# Altium schematic symbol library CONECTER.SchLib: 120 symbols
Pins are listed as number, name and electrical type; pins without a type are passive.

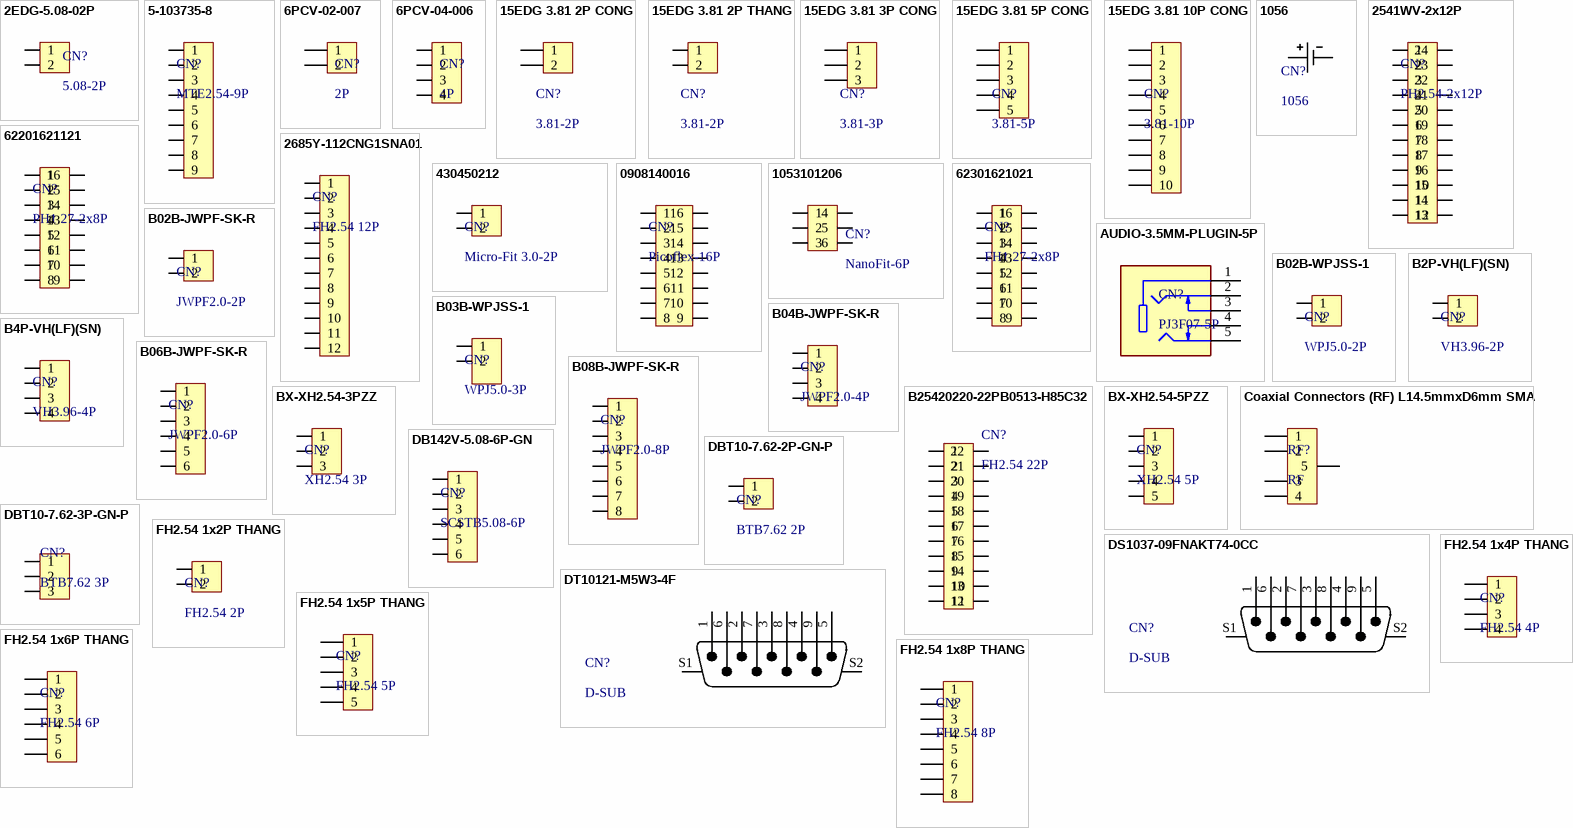
[diagram p0: symbols 2EDG-5.08-02P to FH2.54 1x8P THANG]

## 2EDG-5.08-02P
designator CN?, comment 5.08-2P
320V 20A 2 Bend -40℃~+105℃ 1 5.08mm 1x2P Green Board Edge/Receptacle-Close Push-Pull,P=5.08mm Pluggable System Terminal Block ROHS; Manufacturer: DORABO; Mfr.Part #: DB2ERC-5.08-2P-GN; Name: 2EDG-5.08-02P; So_Chan_Cam: 2; So_Chan_Dan: 0; Package: Push-Pull,P=5.08mm
footprint Push-Pull,P=5.08mm,2P(2EDG-5.08-02P)
pins: 1, 2

## 5-103735-8
designator CN?, comment MTE2.54-9P
Connector Header Through Hole 9 position 0.100" (2.54mm); Manufacturer: TE Connectivity AMP Connectors; Mfr.Part #: 5-103735-8; DigiKey Part Number: A33940-ND; Package: Plugin,P=2.54mm
footprint Plugin,P=2.54mm,7P
footprint Plugin,P=2.54mm,7P-1
pins: 1, 2, 3, 4, 5, 6, 7, 8, 9

## 6PCV-02-007
designator CN?, comment 2P
2 Circuit 0.375" (9.53mm) Barrier Block Connector Screws; Manufacturer: TE Connectivity AMP Connectors; Mfr.Part #: 6PCV-02-007; So_Chan_Cam: 2; So_Chan_Dan: 0; Web: Digikey; Name: 6PCV-02-007; Package: Plugin,P=375mil; ComponentLink1Description: Link; ComponentLink1URL: https://www.te.com/usa-en/product-4-1437652-0.datasheet.pdf
footprint Plugin,P=375mil,L=811mil
pins: 1, 2

## 6PCV-04-006
designator CN?, comment 4P
4 Circuit 0.375" (9.53mm) Barrier Block Connector Screws; Manufacturer: TE Connectivity AMP Connectors; Mfr.Part #: 6PCV-04-006; So_Chan_Cam: 2; So_Chan_Dan: 0; Web: Digikey; Name: 6PCV-04-006; Package: Plugin,P=375mil; ComponentLink1Description: Link; ComponentLink1URL: https://www.te.com/usa-en/product-4-1437652-0.datasheet.pdf
footprint Plugin,P=375mil,L=811mil,4P
pins: 1, 2, 3, 4

## 15EDG 3.81 2P CONG
designator CN?, comment 3.81-2P
2 Straight Needle 1 3.81mm Green Plugin,P=3.81mm Pluggable System Terminal Block ROHS; Manufacturer: Phoenix Contact; Mfr.Part #: 5444262; Name: 15EDG 3.81 2P CONG; So_Chan_Dan: 0; So_Chan_Cam: 2; Package: Plugin,P=3.81,90°, Right Angle
footprint Plugin,P=3.81,90°, Right Angle,2P
pins: 1, 2

## 15EDG 3.81 2P THANG
designator CN?, comment 3.81-2P
3.81mm Plugin,P=3.81mm Pluggable System Terminal Block ROHS; Manufacturer: HCTL; Mfr.Part #: HC15EDGVC-3.81-2P-V; Name: 15EDG 3.81 2P CONG; So_Chan_Dan: 0; So_Chan_Cam: 2; Package: Plugin,P=3.81mm
footprint Plugin,P=3.81,2P
pins: 1, 2

## 15EDG 3.81 3P CONG
designator CN?, comment 3.81-3P
160V 8A 3 Bend 1 3.81mm 1x3P Green Receptacle-Close Push-Pull,P=3.81mm Pluggable System Terminal Block ROHS; Manufacturer: Phoenix Contact; Mfr.Part #: 1803280; Name: 15EDG 3.81 3P CONG; So_Chan_Dan: 0; So_Chan_Cam: 3; Package: Plugin,P=3.81,90°, Right Angle
footprint Plugin,P=3.81,90°, Right Angle,3P
pins: 1, 2, 3

## 15EDG 3.81 5P CONG
designator CN?, comment 3.81-5P
160V 8A 5 Bend 1 3.81mm 1x5P Green Receptacle-Close Push-Pull,P=3.81mm Pluggable System Terminal Block ROHS; Manufacturer: Phoenix Contact; Mfr.Part #: 1803303; Name: 15EDG 3.81 3P CONG; So_Chan_Dan: 0; So_Chan_Cam: 5; Package: Plugin,P=3.81,90°, Right Angle
footprint Plugin,P=3.81,90°, Right Angle,5P
pins: 1, 2, 3, 4, 5

## 15EDG 3.81 10P CONG
designator CN?, comment 3.81-10P
P=3.81mm Pluggable System Terminal Block ROHS; Manufacturer: Phoenix Contact; Mfr.Part #: 1803358; Name: 15EDG 3.81 10P CONG; So_Chan_Dan: 0; So_Chan_Cam: 10; Package: Plugin,P=3.81,90°, Right Angle
footprint Plugin,P=3.81,90°, Right Angle,10p
pins: 1, 2, 3, 4, 5, 6, 7, 8, 9, 10

## 1056
designator CN?
SMD BatteryConnector; Manufacturer: Keystone; So_Chan_Cam: 0; So_Chan_Dan: 2; Mfr.Part #: 1056; Name: 1056; Package: SMD
footprint SMD,BAT_CASE_1056
pins: 1, 2

## 2541WV-2x12P
designator CN?, comment PH2.54-2x12P
Gold Straight Policy 2.54mm 6mm 24P -55℃~+105℃ 3mm 2.54mm Double Row 2x12P Plugin,P=2.54mm Pin Headers ROHS; Manufacturer: HanElectricity; Mfr.Part #: 2541WV-2x12P; Package: Plugin,P=2.54mm; LCSC Part #: C5383110
footprint Plugin,P=2.54mm,2X12P,Pin Headers
pins: 1, 2, 3, 4, 5, 6, 7, 8, 9, 10, 11, 12, 13, 14, 15, 16, 17, 18, 19, 20, 21, 22, 23, 24

## 2685Y-112CNG1SNA01
designator CN?, comment FH2.54 12P
2.54mm 2.54mm 3A Single Row Gold 12P -40℃~+105℃ Brass Straight 1x12P 8.5mm Top Square Hole Plugin,P=2.54mm Female Headers ROHS; Manufacturer: HOAUC; Mfr.Part #: 2685Y-112CNG1SNA01; Package: Plugin,P=2.54mm; LCSC Part #: C5110232
footprint Plugin,P=2.54mm,12p,Female Headers
pins: 1, 2, 3, 4, 5, 6, 7, 8, 9, 10, 11, 12

## 430450212
designator CN?, comment Micro-Fit 3.0-2P
2x1P 2P Micro-Fit(MX 3.0) Tin 3mm 1 -40℃~+105℃ 8.5A 2 3mm Brass Through Hole Plugin,P=3mm Wire To Board Connector ROHS; Manufacturer: MOLEX; Mfr.Part #: 430450212; LCSC Part #: C293362; Package: Plugin,P=3mm
footprint Push-Pull,P=2.54mm,2P
pins: 1, 2

## 0908140016
designator CN?, comment Picoflex-16P
Connector Header Surface Mount 16 position 0.050" (1.27mm); Manufacturer: Molex; Mfr.Part #: 0908140016; DigiKey Part Number: WM19280-ND; Package: SMD,1.27mm
footprint Plugin,P=2.54mm,2x15P,Female Headers
pins: 1, 2, 3, 4, 5, 6, 7, 8, 9, 10, 11, 12, 13, 14, 15, 16

## 1053101206
designator CN?, comment NanoFit-6P
Connector Header Through Hole 6 position 0.098" (2.50mm); Manufacturer: Molex; Mfr.Part #: 1053101206; DigiKey Part Number: WM14970-ND; Package: Plugin,P=2.5mm
footprint Plugin,P=2.5mm,2X3P,Nano-Fit 6P Male
pins: 1, 2, 3, 4, 5, 6

## 62201621121
designator CN?, comment PH1.27-2x8P
Connector Header Through Hole 16 position 0.050" (1.27mm); Manufacturer: Würth Elektronik; Mfr.Part #: 62201621121; DigiKey Part Number: 732-5376-ND; Package: Plugin,P=1.27mm
footprint Plugin,P=1.27mm,2X8P,Pin Headers
pins: 1, 2, 3, 4, 5, 6, 7, 8, 9, 10, 11, 12, 13, 14, 15, 16

## 62301621021
designator CN?, comment FH1.27-2x8P
16 Position Receptacle Connector 0.050" (1.27mm) Surface Mount Gold; Manufacturer: Würth Elektronik; Mfr.Part #: 62301621021; DigiKey Part Number: 732-62301621021-ND; Package: SMD,P=1.27mm
footprint SMD,P=1.27mm,2x8P
pins: 1, 2, 3, 4, 5, 6, 7, 8, 9, 10, 11, 12, 13, 14, 15, 16

## AUDIO-3.5MM-PLUGIN-5P
designator CN?, comment PJ3F07-5P
-30℃~+70℃ 3.5mm headphone jack 30V 500mA Plugin Audio Connectors ROHS; MF: CUI Devices; MP: SJ1-3525N; SnapEDA_Link: https://www.snapeda.com/parts/SJ1-3525N/CUI+Devices/view-part/?ref=snap; Package: None; Value: *; CUI_purchase_URL: https://www.cuidevices.com/product/interconnect/connectors/audio-connectors/jacks/sj1-3525n?utm_source=snapeda.com&utm_medium=referral&utm_campaign=snapedaBOM; Check_prices: https://www.snapeda.com/parts/SJ1-3525N/CUI+Devices/view-part/?ref=eda
footprint AUDIO-3.5MM-PLUGIN-5P
pins: 1, 2, 3, 4, 5

## B02B-JWPF-SK-R
designator CN?, comment JWPF2.0-2P
Connector Header Through Hole 2 position 0.079" (2.00mm); Manufacturer: JST Sales America Inc.; Mfr.Part #: B02B-JWPF-SK-R; DigiKey Part Number: 455-1991-ND; Package: Plugin,P=2mm
footprint Push-Pull,P=2.54mm,2P
pins: 1, 2

## B02B-WPJSS-1
designator CN?, comment WPJ5.0-2P
Connector Header Through Hole 2 position 0.197" (5.00mm); Manufacturer: JST Sales America Inc.; Mfr.Part #: B02B-WPJSS-1; DigiKey Part Number: 455-B02B-WPJSS-1-ND; Package: Plugin,P=5mm
footprint Push-Pull,P=2.54mm,2P
pins: 1, 2

## B2P-VH(LF)(SN)
designator CN?, comment VH3.96-2P
1x2P 2P VH Tin 2 -25℃~+85℃ 10A 1 3.96mm Brass Through Hole Through Hole,P=3.96mm Wire To Board Connector ROHS; Manufacturer: JST; Mfr.Part #: B2P-VH(LF)(SN); LCSC Part #: C160315; Package: Through Hole,P=3.96mm
footprint Push-Pull,P=3.96mm,2P
pins: 1, 2

## B03B-WPJSS-1
designator CN?, comment WPJ5.0-3P
Connector Header Through Hole 3 position 0.197" (5.00mm); Manufacturer: JST Sales America Inc.; Mfr.Part #: B03B-WPJSS-1; DigiKey Part Number: 455-B03B-WPJSS-1-ND; Package: Plugin,P=5mm
footprint Push-Pull,P=2.54mm,2P
pins: 1, 2

## B04B-JWPF-SK-R
designator CN?, comment JWPF2.0-4P
1 2mm Tin -55℃~+85℃ 3A Copper Alloy Through Hole Plugin,P=2mm Wire To Board Connector ROHS; Manufacturer: JST; Mfr.Part #: B04B-JWPF-SK-R(LF)(SN); LCSC Part #: C2983882; Package: Plugin,P=2mm
footprint Push-Pull,P=2.54mm,2P
pins: 1, 2, 3, 4

## B4P-VH(LF)(SN)
designator CN?, comment VH3.96-4P
1x4P 4P VH Tin 4 -25℃~+85℃ 10A 1 3.96mm Brass Through Hole Through Hole,P=3.96mm Wire To Board Connector ROHS; Manufacturer: JST; Mfr.Part #: B4P-VH(LF)(SN); LCSC Part #: C160317; Package: Through Hole,P=3.96mm
footprint Push-Pull,P=3.96mm,4P
pins: 1, 2, 3, 4

## B06B-JWPF-SK-R
designator CN?, comment JWPF2.0-6P
Connector Header Through Hole 6 position 0.079" (2.00mm); Manufacturer: JST Sales America Inc.; Mfr.Part #: B06B-JWPF-SK-R; DigiKey Part Number: 455-3330-ND; Package: Plugin,P=2mm
pins: 1, 2, 3, 4, 5, 6

## B08B-JWPF-SK-R
designator CN?, comment JWPF2.0-8P
Connector Header Through Hole 8 position 0.079" (2.00mm); Manufacturer: JST Sales America Inc.; Mfr.Part #: B08B-JWPF-SK-R; DigiKey Part Number: 455-3331-ND; Package: Plugin,P=2mm
pins: 1, 2, 3, 4, 5, 6, 7, 8

## B25420220-22PB0513-H85C32
designator CN?, comment FH2.54 22P
2.54mm 1 22P Gold -40℃~+105℃ 1x22P Top 8.5mm 3A Square Hole Through Hole Through Hole,P=2.54mm Headers, Receptacles, Female Sockets ROHS; Manufacturer: HMTCONN; Mfr.Part #: B25420220-22PB0513-H85C32; LCSC Part #: C42385708; Package: Through Hole,P=2.54mm
footprint Plugin,P=2.54mm,22P,Female Headers
pins: 1, 2, 3, 4, 5, 6, 7, 8, 9, 10, 11, 12, 13, 14, 15, 16, 17, 18, 19, 20, 21, 22

## BX-XH2.54-3PZZ
designator CN?, comment XH2.54 3P
3P 1x3P XH Tin -25℃~+85℃ White 2.5mm 250V 3 1 Through Hole Through Hole,P=2.5mm Headers, Male Pins ROHS; Manufacturer: Bossie; Mfr.Part #: BX-XH2.54-3PZZ; LCSC Part #: C18077834; Package: Plugin,P=2.54mm
footprint Plugin,P=2.54mm,3P
pins: 1, 2, 3

## BX-XH2.54-5PZZ
designator CN?, comment XH2.54 5P
1x5P 5P 1 XH Tin 2.54mm 5 -25℃~+85℃ Brass 3A Straight Plugin,P=2.54mm Wire To Board Connector ROHS; Manufacturer: Bossie; Mfr.Part #: BX-XH2.54-5PZZ; LCSC Part #: C18077836; Package: Plugin,P=2.54mm
footprint Plugin,P=2.54mm,5P
pins: 1, 2, 3, 4, 5

## Coaxial Connectors (RF) L14.5mmxD6mm SMA
designator RF?, comment RF
1 Inner Hole SMA Board-End Elbow 50Ω 5.3mm Plugin Coaxial Connectors (RF) ROHS; Manufacturer: BAT WIRELESS; Mfr.Part #: BWSMA-KWE-Z001; Name: PH2.0 2P THANG; So_Chan_Cam: 5; So_Chan_Dan: 0; Package: Plugin
footprint SMA,RF
pins: 1, 2, 3, 4, 5

## DB142V-5.08-6P-GN
designator CN?, comment SCSTB5.08-6P
1.5 5.08mm 14~24 1x6P -40℃~+105℃ 10A 6P 300V Straight Green 6 1 Plugin,P=5.08mm Spring Clamp System Terminal Block ROHS; Manufacturer: DORABO; Mfr.Part #: DB142V-5.08-6P-GN; Package: Plugin,P=5.08mm
footprint Plugin,P=5.08mm,6P-1
pins: 1, 2, 3, 4, 5, 6

## DBT10-7.62-2P-GN-P
designator CN?, comment BTB7.62 2P
1x2P Corner Double-sided 2 1 7.62mm 24A -40℃~+105℃ 450V Green 14~22 Straight Needle Plugin,P=7.62mm Barrier Terminal Blocks ROHS; Manufacturer: DORABO; Mfr.Part #: DBT10-7.62-2P-GN-P; So_Chan_Cam: 2; So_Chan_Dan: 0; Name: DBT10-7.62-2P-GN-P; Package: Plugin,P=7.62mm
footprint Plugin,P=7.62mm,2P
pins: 1, 2

## DBT10-7.62-3P-GN-P
designator CN?, comment BTB7.62 3P
1x3P Corner Double-sided 3 1 7.62mm 24A -40℃~+105℃ 450V Green 14~22 Straight Needle Plugin,P=7.62mm Barrier Terminal Blocks ROHS; Manufacturer: DORABO; Mfr.Part #: DBT10-7.62-3P-GN-P; Package: Plugin,P=7.62mm
footprint Plugin,P=7.62mm,3P
pins: 1, 2, 3

## DS1037-09FNAKT74-0CC
designator CN?, comment D-SUB
9P Female Standard D-Sub Bend-in 2 3A -40℃~+105℃ Push-Pull D-Sub / VGA Connectors ROHS; Manufacturer: CONNFLY Elec; Mfr.Part #: DS1037-09FNAKT74-0CC; Name: DT10121-M5W3-4F; So_Chan_Cam: 11; So_Chan_Dan: 0; Package: Push-Pull
footprint D-Sub, 9P,Push-Pull,Female
pins: 1, 2, 3, 4, 5, 6, 7, 8, 9, S1, S2

## DT10121-M5W3-4F
designator CN?, comment D-SUB
9P Male Standard D-Sub Bend-in 2 2A -20℃~+85℃ Push-Pull D-Sub / VGA Connectors ROHS; Manufacturer: FOXCONN; Mfr.Part #: DT10121-M5W3-4F; So_Chan_Cam: 11; So_Chan_Dan: 0; Name: DT10121-M5W3-4F; Package: Push-Pull
footprint D-Sub, 9P, Push-Pull
pins: 1, 2, 3, 4, 5, 6, 7, 8, 9, S1, S2

## FH2.54 1x2P THANG
designator CN?, comment FH2.54 2P
2.54mm Single Row 2P Direct Insert 1x2P Plugin,P=2.54mm Female Headers ROHS; Manufacturer: BOOMELE(Boom Precision Elec); Mfr.Part #: 2.54-1*2P; Name: FH2.54 1x2P THANG; So_Chan_Cam: 2; So_Chan_Dan: 0; Package: Plugin,P=2.54mm
footprint Plugin,P=2.54mm,2P,Female Headers
footprint Push-Pull,P=3.96mm,2P
pins: 1, 2

## FH2.54 1x4P THANG
designator CN?, comment FH2.54 4P
2.54mm Plugin 3A 4P bronze -40℃~+105℃ Straight 1x4P Top Square Holes Plugin,P=2.54mm Female Headers ROHS; Manufacturer: BOOMELE(Boom Precision Elec); Mfr.Part #: 2.54-1*4P; Name: FH2.54 1x4P THANG; So_Chan_Cam: 4; So_Chan_Dan: 0; Package: Plugin,P=2.54mm
footprint Plugin,P=2.54mm,4P,Female Headers
pins: 1, 2, 3, 4

## FH2.54 1x5P THANG
designator CN?, comment FH2.54 5P
2.54mm Plugin 5P Straight 1x5P Plugin,P=2.54mm Female Headers ROHS; Manufacturer: BOOMELE(Boom Precision Elec); Mfr.Part #: 2.54-1*5P; Name: FH2.54 1x5P THANG; So_Chan_Cam: 5; So_Chan_Dan: 0; Package: Plugin,P=2.54mm
footprint Plugin,P=2.54mm,5P,Female Headers
pins: 1, 2, 3, 4, 5

## FH2.54 1x6P THANG
designator CN?, comment FH2.54 6P
2.54mm Plugin 6P Straight 1x6P Plugin,P=2.54mm Female Headers ROHS; Manufacturer: BOOMELE(Boom Precision Elec); Mfr.Part #: 2.54-1*6P; Name: FH2.54 1x6P THANG; So_Chan_Cam: 6; So_Chan_Dan: 0; Package: Plugin,P=2.54mm
footprint Plugin,P=2.54mm,6P,Female Headers
pins: 1, 2, 3, 4, 5, 6

## FH2.54 1x8P THANG
designator CN?, comment FH2.54 8P
2.54mm Single Row 8P Direct Insert 1x8P Plugin,P=2.54mm Female Headers ROHS; Manufacturer: BOOMELE(Boom Precision Elec); Mfr.Part #: 2.54-1*8P; Name: FH2.54 1x8P THANG; So_Chan_Cam: 8; So_Chan_Dan: 0; Package: Plugin,P=2.54mm
footprint Plugin,P=2.54mm,8P,Female Headers
pins: 1, 2, 3, 4, 5, 6, 7, 8

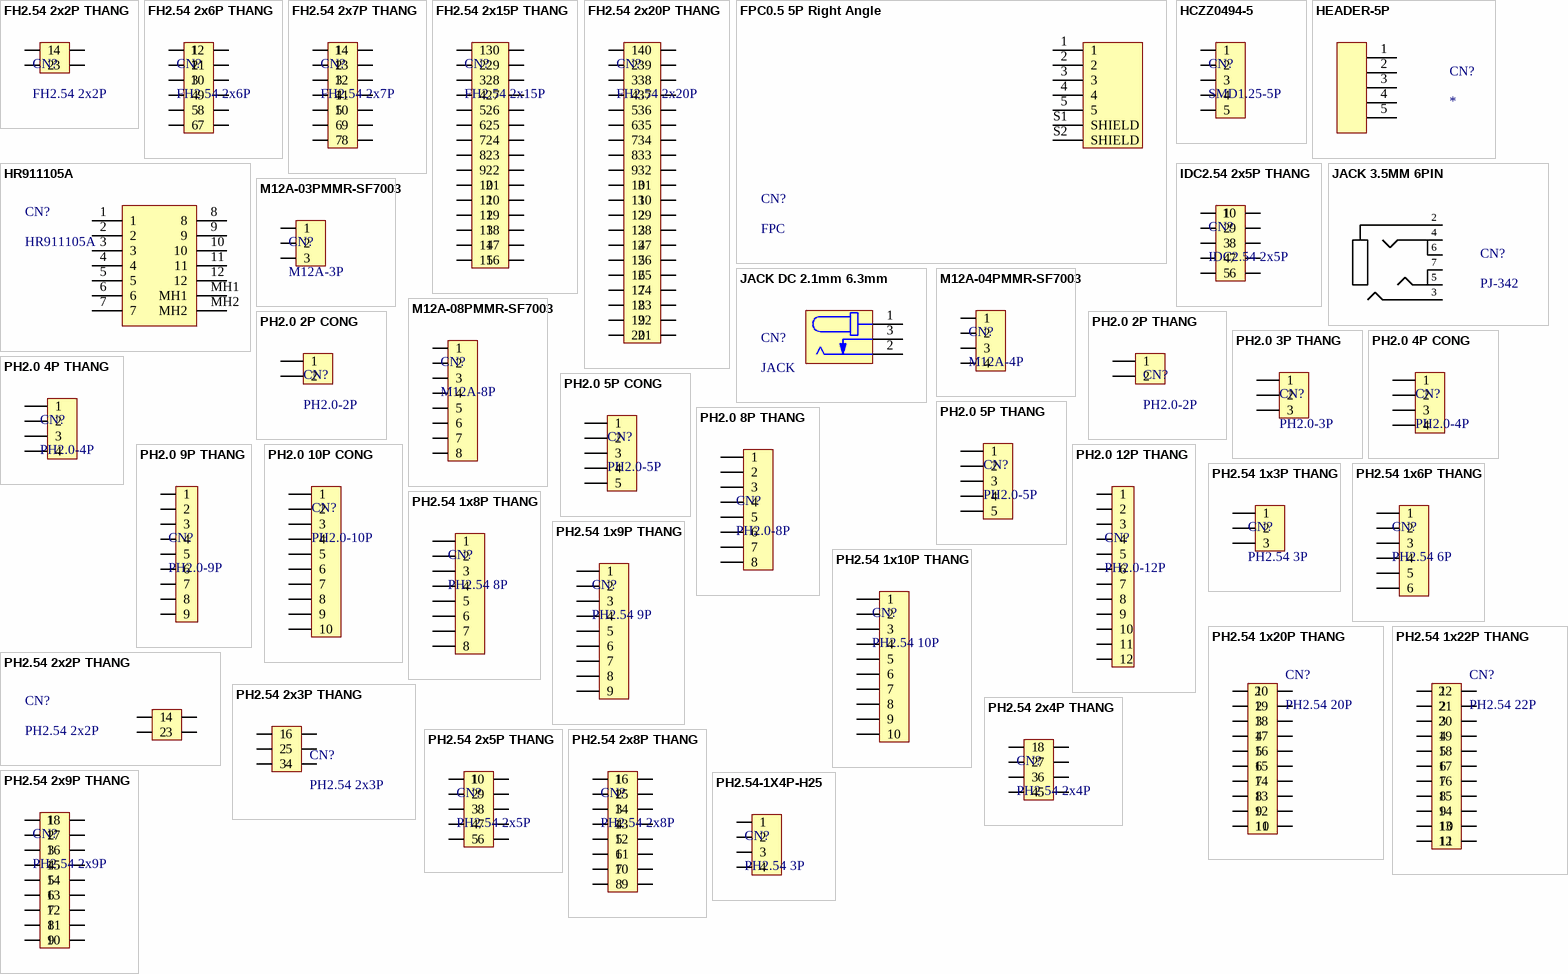
[diagram p1: symbols FH2.54 2x2P THANG to PH2.54-1X4P-H25]

## FH2.54 2x2P THANG
designator CN?, comment FH2.54 2x2P
Top 2.54mm 8.5mm Direct Insert Square Hole -40℃~+105℃ 2x2P 2.54mm 3A Double Row 4P Copper alloy Plugin; Manufacturer: HCTL; Mfr.Part #: PM254-2-02-Z-8.5; Name: FH2.54 2x2P THANG; So_Chan_Cam: 4; So_Chan_Dan: 0; Package: Plugin,P=2.54mm
footprint Plugin,P=2.54mm,2x2P,Female Headers
pins: 1, 2, 3, 4

## FH2.54 2x6P THANG
designator CN?, comment FH2.54 2x6P
2.54mm 2.54mm Double Row 3A Copper alloy 12P -40℃~+105℃ Direct Insert 2x6P 8.5mm Top Square Hole Plugin,P=2.54mm Female Headers ROHS; Manufacturer: HCTL; Mfr.Part #: PM254-2-06-Z-8.5; Name: FH2.54 2x6P THANG; So_Chan_Cam: 12; So_Chan_Dan: 0; Package: Plugin,P=2.54mm
footprint Plugin,P=2.54mm,2x6P,Female Headers
pins: 1, 2, 3, 4, 5, 6, 7, 8, 9, 10, 11, 12

## FH2.54 2x7P THANG
designator CN?, comment FH2.54 2x7P
Top 2.54mm 8.5mm 2x7P Direct Insert Square Hole -40℃~+105℃ 2.54mm 3A Double Row 14P Copper alloy Plugin; Manufacturer: HCTL; Mfr.Part #: PM254-2-07-Z-8.5; Name: FH2.54 2x7P THANG; So_Chan_Cam: 14; So_Chan_Dan: 0; Package: Plugin,P=2.54mm
footprint Plugin,P=2.54mm,2x7P,Female Headers
pins: 1, 2, 3, 4, 5, 6, 7, 8, 9, 10, 11, 12, 13, 14

## FH2.54 2x15P THANG
designator CN?, comment FH2.54 2x15P
2.54mm 2.54mm Double Row 3A Copper alloy 30P -40℃~+105℃ Direct Insert 2x15P 8.5mm Top Square Hole Plugin,P=2.54mm Female Headers ROHS; Manufacturer: HCTL; Mfr.Part #: PM254-2-15-Z-8.5; Name: FH2.54 2x15P THANG; So_Chan_Cam: 30; So_Chan_Dan: 0; Package: Plugin,P=2.54mm
footprint Plugin,P=2.54mm,2x15P,Female Headers
pins: 1, 2, 3, 4, 5, 6, 7, 8, 9, 10, 11, 12, 13, 14, 15, 16, 17, 18, 19, 20, 21, 22, 23, 24, 25, 26, 27, 28, 29, 30

## FH2.54 2x20P THANG
designator CN?, comment FH2.54 2x20P
2x20P Top 2.54mm 8.5mm Direct Insert Square Hole -40℃~+105℃ 2.54mm 3A Double Row 40P Copper alloy Plugin; Manufacturer: HCTL; Mfr.Part #: PM254-2-20-Z-8.5; Name: FH2.54 2x20P THANG; So_Chan_Cam: 40; So_Chan_Dan: 0; Package: Plugin,P=2.54mm
footprint Plugin,P=2.54mm,2x20P,Female Headers
pins: 1, 2, 3, 4, 5, 6, 7, 8, 9, 10, 11, 12, 13, 14, 15, 16, 17, 18, 19, 20, 21, 22, 23, 24, 25, 26, 27, 28, 29, 30, 31, 32, 33, 34, 35, 36, 37, 38, 39, 40

## FPC0.5 5P Right Angle
designator CN?, comment FPC
Drawer Type 6P Bottom Contact Horizontal attachment 0.5mm SMD,P=0.5mm,Surface Mount，Right Angle FFC, FPC (Flat Flexible) Connector Assemblies ROHS; Manufacturer: Warning; Name: None; So_Chan_Dan: 7; So_Chan_Cam: 0; Mfr.Part #: https://snapeda.com/shop?store=Mouser&id=2375057; Package: SMD,P=0.5mm,Surface Mount,Right Angle,5P
footprint SMD,P=0.5mm,Surface Mount,Right Angle,5P
pins: 1, 2, 3, 4, 5, S1 SHIELD, S2 SHIELD

## HCZZ0494-5
designator CN?, comment SMD1.25-5P
1x5P 5P GH Tin 5 -25℃~+85℃ 1A 1 1.25mm Copper Surface Mount,Vertical SMD,p=1.25mm Wire To Board Connector ROHS; Manufacturer: Hong Cheng; Mfr.Part #: HCZZ0494-5; LCSC Part #: C7433501; Package: SMD,P=1.25mm
footprint SMD VERTICAL,P=1.25mm,5P
pins: 1, 2, 3, 4, 5

## HEADER-5P
designator CN?
footprint GX16-5P
pins: 1 13, 2 14, 3 15, 4 16, 5 17

## HR911105A
designator CN?
RJ45Receptacle 1 WithLED Plugin Ethernet Connectors / Modular Connectors (RJ45 RJ11) ROHS; Manufacturer: HANRUN(Zhongshan HanRun Elec); So_Chan_Cam: 14; So_Chan_Dan: 0; Mfr.Part #: HR911105A; Name: HR911105A; Package: Plugin,P=2.54mm
footprint Plugin,RJ45,1
pins: 1, 2, 3, 4, 5, 6, 7, 8, 9, 10, 11, 12, MH1, MH2

## IDC2.54 2x5P THANG
designator CN?, comment IDC2.54 2x5P
2.54mm Direct Insert 2x5P 5 Simple cow constellation 2.54mm 2 Plugin,P=2.54mm IDC Connectors ROHS; Manufacturer: BOOMELE(Boom Precision Elec); Mfr.Part #: 2.54-2*5P; Name: IDC2.54 2x5P THANG; So_Chan_Cam: 10; So_Chan_Dan: 0; Package: Plugin,P=2.54mm
footprint IDC Plugin,P=2.54mm 2X5P
pins: 1, 2, 3, 4, 5, 6, 7, 8, 9, 10

## JACK 3.5MM 6PIN
designator CN?, comment PJ-342
-30℃~+70℃ 3.5mm Headphone Jack 30V 500mA SMD Audio Connectors (Headphones) ROHS; Manufacturer: SHOU HAN; Name: JACK 3.5MM 6PIN; So_Chan_Cam: 0; So_Chan_Dan: 6; Mfr.Part #: PJ-342; Package: PJ-342
footprint SMD-AUDIO-3.5MM-6PIN
pins: 2, 3, 4, 5, 6, 7

## JACK DC 2.1mm 6.3mm
designator CN?, comment JACK
Bend insert DC Power Receptacle -40℃~+55℃ 2.1mm 6.3mm 500mA 30V Plugin DC Power Connectors ROHS; Manufacturer: GANGYUAN; Mfr.Part #: DC-470-2.1GP; Name: JACK DC 2.1mm 6.3mm; So_Chan_Cam: 3; So_Chan_Dan: 0; Package: Plugin
footprint Plugin,JACK DC
pins: 1, 2, 3

## M12A-03PMMR-SF7003
designator CN?, comment M12A-3P
3 Position Circular Connector Receptacle, Male Pins Solder; Manufacturer: Amphenol LTW; Mfr.Part #: M12A-03PMMR-SF7003; DigiKey Part Number: M12A-04PMMR-SF7003-ND; Package: M12A
footprint Push-Pull,P=2.54mm,2P
pins: 1, 2, 3

## M12A-04PMMR-SF7003
designator CN?, comment M12A-4P
4 Position Circular Connector Receptacle, Male Pins Solder; Manufacturer: Amphenol LTW; Mfr.Part #: M12A-04PMMR-SF7003; DigiKey Part Number: M12A-04PMMR-SF7003-ND; Package: M12A
footprint Push-Pull,P=2.54mm,2P
pins: 1, 2, 3, 4

## M12A-08PMMR-SF7003
designator CN?, comment M12A-8P
8 Position Circular Connector Receptacle, Male Pins Solder; Manufacturer: Amphenol LTW; Mfr.Part #: M12A-08PMMR-SF7003; DigiKey Part Number: M12A-08PMMR-SF7003-ND; Package: M12A
footprint Push-Pull,P=2.54mm,2P
pins: 1, 2, 3, 4, 5, 6, 7, 8

## PH2.0 2P CONG
designator CN?, comment PH2.0-2P
1x2P 2P PH 1 Tin 2mm 2mm 2 -25℃~+85℃ Brass 1A Bend-in Push-Pull,P=2mm Wire To Board Connector ROHS; Manufacturer: SHOU HAN; Mfr.Part #: 2.0MM-2P WZ; Name: PH2.0 4P THANG; So_Chan_Cam: 2; So_Chan_Dan: 0; Package: Push-Pull,P=2mm
footprint Push-Pull,P=2mm,2P-2
footprint Push-Pull,P=2mm,2P-1
footprint Plugin,P=2.54mm,2P-1
pins: 1, 2

## PH2.0 2P THANG
designator CN?, comment PH2.0-2P
1x2P 2P PH Tin 2 -25℃~+85℃ 2A 1 2mm Brass Direct Insert Plugin,P=2mm Wire To Board Connector ROHS; Manufacturer: JST; Mfr.Part #: B2B-PH-K-S(LF)(SN); Name: PH2.0 2P THANG; So_Chan_Cam: 2; So_Chan_Dan: 0; Package: Plugin,P=2mm
footprint Plugin,P=2mm,2P
pins: 1, 2

## PH2.0 3P THANG
designator CN?, comment PH2.0-3P
1x3P 3P PH Tin 3 -25℃~+85℃ 2A 1 2mm Brass Direct Insert Plugin,P=2mm Wire To Board Connector ROHS; Manufacturer: JST; Mfr.Part #: B3B-PH-K-S(LF)(SN); Name: PH2.0 3P THANG; So_Chan_Cam: 3; So_Chan_Dan: 0; Package: Plugin,P=2mm
footprint Plugin,P=2mm,3P
pins: 1, 2, 3

## PH2.0 4P CONG
designator CN?, comment PH2.0-4P
1x4P 4P PH 1 Tin 2mm 2mm 4 -25℃~+85℃ Brass 1A Bend insert Push-Pull,P=2mm Wire To Board Connector ROHS; Manufacturer: SHOU HAN; Mfr.Part #: 2.0MM-4P WZ; Name: PH2.0 4P THANG; So_Chan_Cam: 4; So_Chan_Dan: 0; Package: Push-Pull,P=2mm
footprint Push-Pull,P=2mm,4P-1
footprint Push-Pull,P=2mm,4P-2
pins: 1, 2, 3, 4

## PH2.0 4P THANG
designator CN?, comment PH2.0-4P
1x4P 4P PH Tin 4 -25℃~+85℃ 2A 1 2mm Brass Direct Insert Plugin,P=2mm Wire To Board Connector ROHS; Manufacturer: JST; Mfr.Part #: B4B-PH-K-S(LF)(SN); Name: PH2.0 4P THANG; So_Chan_Cam: 4; So_Chan_Dan: 0; Package: Plugin,P=2mm
footprint Plugin,P=2mm,4P
footprint Plugin,P=2.54mm,4P-1
pins: 1, 2, 3, 4

## PH2.0 5P CONG
designator CN?, comment PH2.0-5P
1x5P 5P PH 1 Tin 2mm 2mm 5 -25℃~+85℃ Brass 1A Bend insert Push-Pull,P=2mm Wire To Board Connector ROHS; Manufacturer: SHOU HAN; Mfr.Part #: 2.0MM-5P WZ; Name: PH2.0 2P THANG; So_Chan_Cam: 5; So_Chan_Dan: 0; Package: Push-Pull,P=2mm
footprint Push-Pull,P=2mm,5P-1
footprint Push-Pull,P=2mm,5P-2
pins: 1, 2, 3, 4, 5

## PH2.0 5P THANG
designator CN?, comment PH2.0-5P
1x5P 5P PH Tin 5 -25℃~+85℃ 2A 1 2mm Brass Straight Plugin,P=2mm Wire To Board Connector ROHS; Manufacturer: JST; Mfr.Part #: B5B-PH-K-S(LF)(SN); Name: PH2.0 2P THANG; So_Chan_Cam: 5; So_Chan_Dan: 0; Package: Plugin,P=2mm
footprint Plugin,P=2mm,5P
pins: 1, 2, 3, 4, 5

## PH2.0 8P THANG
designator CN?, comment PH2.0-8P
1x8P 8P PH Tin 8 -25℃~+85℃ 2A 1 2mm Brass Straight Plugin,P=2mm Wire To Board Connector ROHS; Manufacturer: JST; Mfr.Part #: B8B-PH-K-S(LF)(SN); Name: PH2.0 2P THANG; So_Chan_Cam: 8; So_Chan_Dan: 0; Package: Plugin,P=2mm
footprint Plugin,P=2mm,8P
pins: 1, 2, 3, 4, 5, 6, 7, 8

## PH2.0 9P THANG
designator CN?, comment PH2.0-9P
1x9P 9P PH Tin 9 -25℃~+85℃ 2A 1 2mm Brass Direct Insert Plugin,P=2mm Wire To Board Connector ROHS; Manufacturer: JST; Mfr.Part #: B9B-PH-K-S(LF)(SN); Name: PH2.0 9P THANG; So_Chan_Cam: 9; So_Chan_Dan: 0; Package: Plugin,P=2mm
footprint Plugin,P=2mm,9P
pins: 1, 2, 3, 4, 5, 6, 7, 8, 9

## PH2.0 10P CONG
designator CN?, comment PH2.0-10P
1x10P 10P 1 2mm 10 -25℃~+85℃ 1A Bend insert Push-Pull,P=2mm Wire To Board Connector ROHS; Manufacturer: SHOU HAN; Mfr.Part #: 2.0mm-10P WZ; Name: PH2.0 10P CONG; So_Chan_Cam: 10; So_Chan_Dan: 0; Package: Push-Pull,P=2mm
footprint Push-Pull,P=2mm,10P-2
pins: 1, 2, 3, 4, 5, 6, 7, 8, 9, 10

## PH2.0 12P THANG
designator CN?, comment PH2.0-12P
1x12P 12P PH Tin 12 -25℃~+85℃ 2A 1 2mm Brass Direct Insert Plugin,P=2mm Wire To Board Connector ROHS; Manufacturer: JST; Mfr.Part #: B12B-PH-K-S(LF)(SN); Name: PH2.0 12P THANG; So_Chan_Cam: 12; So_Chan_Dan: 0; Package: Plugin,P=2mm
footprint Plugin,P=2mm,12P
pins: 1, 2, 3, 4, 5, 6, 7, 8, 9, 10, 11, 12

## PH2.54 1x3P THANG
designator CN?, comment PH2.54 3P
3A Direct Insert Policy 3P -40℃~+105℃ 2.54mm Single Row Black 1x3P Plugin,P=2.54mm Pin Headers ROHS; Manufacturer: BOOMELE(Boom Precision Elec); Mfr.Part #: 2.54-1*3P; Name: PH2.54 1x3P THANG; So_Chan_Cam: 3; So_Chan_Dan: 0; Package: Plugin,P=2.54mm
footprint Plugin,P=2.54mm,3P,Pin Headers
footprint Plugin,P=2.54mm,3P-1
footprint Push-Pull,P=3.96mm,3P
pins: 1, 2, 3

## PH2.54 1x6P THANG
designator CN?, comment PH2.54 6P
3A Direct Insert Policy 6P -40℃~+105℃ 2.54mm Single Row Black Brass 1x6P Plugin,P=2.54mm Pin Headers ROHS; Manufacturer: BOOMELE(Boom Precision Elec); Mfr.Part #: 2.54-1x6P; Name: PH2.54 1x6P THANG; So_Chan_Cam: 6; So_Chan_Dan: 0; Package: Plugin,P=2.54mm
footprint Plugin,P=2.54mm,6P,Pin Headers
footprint Plugin,P=2.54mm,6P-1
pins: 1, 2, 3, 4, 5, 6

## PH2.54 1x8P THANG
designator CN?, comment PH2.54 8P
Gold 3A Direct Insert Policy 2.5mm 8P 6mm -40℃~+105℃ 3mm 2.54mm Black Brass Single Row 1x8P Plugin,P=2.54mm Pin Headers ROHS; Manufacturer: hanxia; Mfr.Part #: HX PZ2.54-1x8P ZZ; Name: PH2.54 1x8P THANG; So_Chan_Cam: 8; So_Chan_Dan: 0; Package: Plugin,P=2.54mm
footprint Plugin,P=2.54mm,8P,Pin Headers
footprint Plugin,P=2.54mm,8P-1
pins: 1, 2, 3, 4, 5, 6, 7, 8

## PH2.54 1x9P THANG
designator CN?, comment PH2.54 9P
Gold 3A Direct Insert Policy 2.5mm 6mm 9P -40℃~+105℃ 3mm 2.54mm Black Single Row 1x9P Plugin,P=2.54mm Pin Headers ROHS; Manufacturer: hanxia; Mfr.Part #: HX PZ2.54-1x9P ZZ; Name: PH2.54 1x9P THANG; So_Chan_Cam: 9; So_Chan_Dan: 0; Package: Plugin,P=2.54mm
footprint Plugin,P=2.54mm,9P,Pin Headers
pins: 1, 2, 3, 4, 5, 6, 7, 8, 9

## PH2.54 1x10P THANG
designator CN?, comment PH2.54 10P
3A Direct Insert Policy 10P -40℃~+105℃ 2.54mm Single Row Black 1x10P Plugin,P=2.54mm Pin Headers ROHS; Manufacturer: BOOMELE(Boom Precision Elec); Mfr.Part #: 2.54-1*10P; Name: PH2.54 1x10P THANG; So_Chan_Cam: 10; So_Chan_Dan: 0; Package: Plugin,P=2.54mm
footprint Plugin,P=2.54mm,10P,Pin Headers
footprint Plugin,P=2.54mm,10P-1
pins: 1, 2, 3, 4, 5, 6, 7, 8, 9, 10

## PH2.54 1x20P THANG
designator CN?, comment PH2.54 20P
3A Straight Policy 20P -40℃~+105℃ 2.54mm Single Row Black Brass 1x20P Plugin,P=2.54mm Pin Headers ROHS; Manufacturer: BOOMELE(Boom Precision Elec); Mfr.Part #: 2.54-1*20P; Name: PH2.54 1x20P THANG; So_Chan_Cam: 20; So_Chan_Dan: 0; Package: Plugin,P=2.54mm
footprint Plugin,P=2.54mm,20P,Pin Headers
footprint Plugin,P=2.54mm,20P,Pin Headers-1
pins: 1, 2, 3, 4, 5, 6, 7, 8, 9, 10, 11, 12, 13, 14, 15, 16, 17, 18, 19, 20

## PH2.54 1x22P THANG
designator CN?, comment PH2.54 22P
3A Straight Policy 20P -40℃~+105℃ 2.54mm Single Row Black Brass 1x20P Plugin,P=2.54mm Pin Headers ROHS; Manufacturer: BOOMELE(Boom Precision Elec); Mfr.Part #: 2.54-1*20P; Name: PH2.54 1x22P THANG; Package: Plugin,P=2.54mm
footprint Plugin,P=2.54mm,22P,Pin Headers-1
pins: 1, 2, 3, 4, 5, 6, 7, 8, 9, 10, 11, 12, 13, 14, 15, 16, 17, 18, 19, 20, 21, 22

## PH2.54 2x2P THANG
designator CN?, comment PH2.54 2x2P
3A Direct Insert Policy 2.5mm 4P 6mm -40℃~+105℃ 3mm 2.54mm Double Row Black Brass 2x2P 2.54mm Plugin,P=2.54mm Pin Headers ROHS; Manufacturer: HCTL; Mfr.Part #: PZ254-2-02-Z-8.5; Name: PH2.54 2x2P THANG; So_Chan_Cam: 4; So_Chan_Dan: 0; Package: Plugin,P=2.54mm
footprint Plugin,P=2.54mm,2X2P,Pin Headers
pins: 1, 2, 3, 4

## PH2.54 2x3P THANG
designator CN?, comment PH2.54 2x3P
3A Direct Insert Policy 2.5mm 6P 6mm -40℃~+105℃ 3mm 2.54mm Double Row Black Brass 2x3P 2.54mm Plugin,P=2.54mm Pin Headers ROHS; Manufacturer: HCTL; Mfr.Part #: PZ254-2-03-Z-8.5; Name: PH2.54 2x3P THANG; So_Chan_Cam: 6; So_Chan_Dan: 0; Package: Plugin,P=2.54mm
footprint Plugin,P=2.54mm,2X3P,Pin Headers
pins: 1, 2, 3, 4, 5, 6

## PH2.54 2x4P THANG
designator CN?, comment PH2.54 2x4P
3A Direct Insert Policy 2.5mm 8P 6mm -40℃~+105℃ 3mm 2.54mm Double Row Black Brass 2.54mm 2x4P Plugin,P=2.54mm Pin Headers ROHS; Manufacturer: HCTL; Mfr.Part #: PZ254-2-04-Z-8.5; Name: PH2.54 2x4P THANG; So_Chan_Cam: 8; So_Chan_Dan: 0; Package: Plugin,P=2.54mm
footprint Plugin,P=2.54mm,2X4P,Pin Headers
pins: 1, 2, 3, 4, 5, 6, 7, 8

## PH2.54 2x5P THANG
designator CN?, comment PH2.54 2x5P
3A Direct Insert Policy 2.5mm 10P 6mm -40℃~+105℃ 3mm 2.54mm Double Row Black Brass 2x5P 2.54mm Plugin,P=2.54mm Pin; Manufacturer: HCTL; Mfr.Part #: PZ254-2-05-Z-8.5; Name: PH2.54 2x5P THANG; So_Chan_Cam: 10; So_Chan_Dan: 0; Package: Plugin,P=2.54mm
footprint Plugin,P=2.54mm,2X5P,Pin Headers
pins: 1, 2, 3, 4, 5, 6, 7, 8, 9, 10

## PH2.54 2x8P THANG
designator CN?, comment PH2.54 2x8P
3A Direct Insert Policy 2.5mm 32P 6mm -40℃~+105℃ 3mm 2.54mm Double Row Black Brass 2x16P 2.54mm Plugin,P=2.5; Manufacturer: HCTL; Mfr.Part #: PZ254-2-16-Z-8.5; Name: PH2.54 2x8P THANG; So_Chan_Cam: 16; So_Chan_Dan: 0; Package: Plugin,P=2.54mm
footprint Plugin,P=2.54mm,2X8P,Pin Headers
pins: 1, 2, 3, 4, 5, 6, 7, 8, 9, 10, 11, 12, 13, 14, 15, 16

## PH2.54 2x9P THANG
designator CN?, comment PH2.54 2x9P
3A Direct Insert Policy 2.5mm 260℃@10S 36P 6mm -40℃~+105℃ 3mm 2.54mm Double Row Black Brass 2x18P 2.54mm Plugin,P=2.54mm Pin Headers ROHS; Manufacturer: HCTL; Mfr.Part #: PZ254-2-18-Z-8.5; Name: PH2.54 2x9P THANG; So_Chan_Cam: 18; So_Chan_Dan: 0; Package: Plugin,P=2.54mm
footprint Plugin,P=2.54mm,2X9P,Pin Headers
pins: 1, 2, 3, 4, 5, 6, 7, 8, 9, 10, 11, 12, 13, 14, 15, 16, 17, 18

## PH2.54-1X4P-H25
designator CN?, comment PH2.54 3P
Plugin,P=2.54mm Pin Headers ROHS; Manufacturer: PH2.54-1X4P-H25; Mfr.Part #: JXTCONN; So_Chan_Cam: 4; So_Chan_Dan: 0; Name: PH2.54-1X4P-H25; Package: Plugin,P=2.54mm
footprint Plugin,P=2.54mm,4P,Pin Headers
footprint Plugin,P=2.54mm,4P-1
footprint Plugin,P=2.54mm,4P,Pin Headers - 1
pins: 1, 2, 3, 4

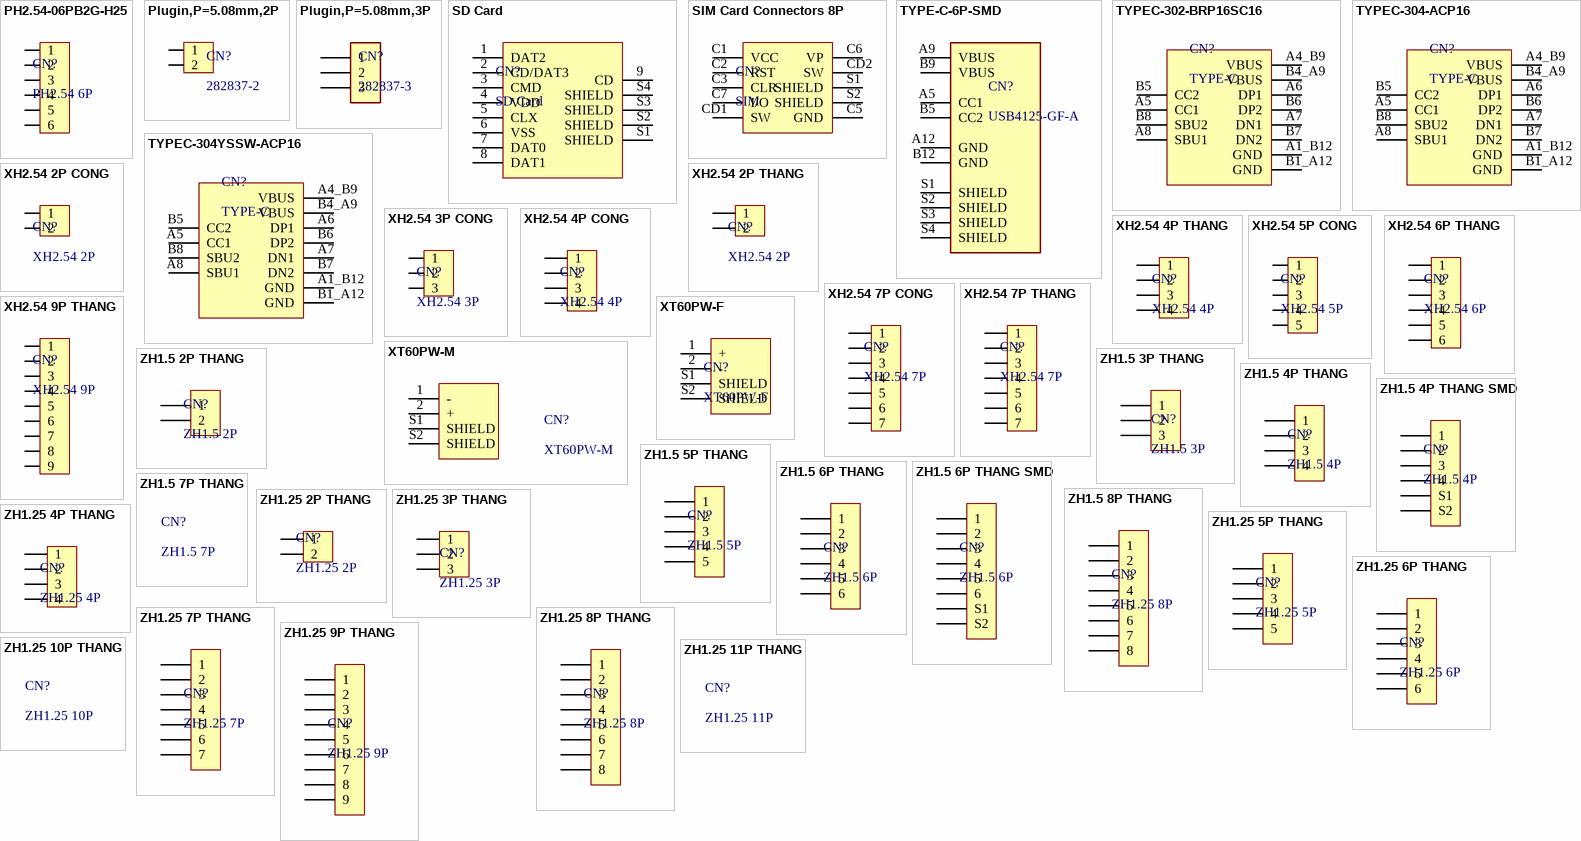
[diagram p2: symbols PH2.54-06PB2G-H25 to ZH1.25 11P THANG]

## PH2.54-06PB2G-H25
designator CN?, comment PH2.54 6P
Gold 3A Through Hole Pin Header 2.5mm 6P 6mm -40℃~+105℃ 3mm 2.54mm Brass Black 1 1x6P Through Hole,P=2.54mm Pin Headers ROHS; Manufacturer: JXTCONN; Mfr.Part #: PH2.54-06PB2G-H25; LCSC Part #: C42431807; Package: Through Hole,P=2.54mm
footprint Plugin,P=2.54mm,6P,Pin Headers
pins: 1, 2, 3, 4, 5, 6

## Plugin,P=5.08mm,2P
designator CN?, comment 282837-2
13.5A 300V Green 16~28 Straight 5.08mm 1 3 Plugin,P=5.08mm Screw terminal ROHS; MF: TE Connectivity; SnapEDA_Link: https://www.snapeda.com/parts/282837-2/TE+Connectivity+AMP+Connectors/view-part/?ref=snap; Price: None; Check_prices: https://www.snapeda.com/parts/282837-2/TE+Connectivity+AMP+Connectors/view-part/?ref=eda; Purchase-URL: https://pricing.snapeda.com/search/part/282837-2/?ref=eda; MP: 282837-2; Value: *; Availability: In Stock; Package: None
footprint Plugin,P=5.08mm,2P
pins: 1, 2

## Plugin,P=5.08mm,3P
designator CN?, comment 282837-3
13.5A 300V Green 16~28 Straight 5.08mm 1 3 Plugin,P=5.08mm Screw terminal ROHS; Availability: Unavailable; Package: None; MP: 282837-3; Value: *; Price: None
footprint Plugin,P=5.08mm
pins: 1, 2, 3

## SD Card
designator CN?
-20℃~+90℃ 2mm Card Slot MicroSD card (TF card) Self-bouncing SMD SD Card / Memory Card Connector ROHS; Manufacturer: SHOU HAN; Mfr.Part #: TF PUSH; So_Chan_Cam: 0; So_Chan_Dan: 13; Name: SD Card; Package: SMD
footprint SMD-SD CARD
pins: 1 DAT2, 2 CD/DAT3, 3 CMD, 4 VDD, 5 CLX, 6 VSS, 7 DAT0, 8 DAT1, 9 CD, S1 SHIELD, S2 SHIELD, S3 SHIELD, S4 SHIELD

## SIM Card Connectors 8P
designator CN?, comment SIM
Self-bouncing 1.8mm Card Slot -40℃~+85℃ MiniSIM card SMD SIM Card Connectors ROHS; Manufacturer: MOLEX; Mfr.Part #: 475531001; Name: SIM Card Connectors 8P; So_Chan_Cam: 0; So_Chan_Dan: 10; Package: SMD
footprint SMD-SIM
pins: C1 VCC, C2 RST, C3 CLR, C5 GND, C6 VP, C7 I/O, CD1 SW, CD2 SW, S1 SHIELD, S2 SHIELD

## TYPE-C-6P-SMD
designator CN?, comment USB4125-GF-A
CONN RCPT TYPE C 6P SMD RA; MP: USB4125-GF-A_REVA2; Package: None; Availability: Unavailable; Value: *; Price: None
footprint TYPE-C-6P-SMD
pins: A5 CC1, A9 VBUS (power), A12 GND (power), B5 CC2, B9 VBUS (power), B12 GND (power), S1 SHIELD, S2 SHIELD, S3 SHIELD, S4 SHIELD

## TYPEC-302-BRP16SC16
designator CN?, comment TYPE-C
5A USB 3.1 1 260℃ Sink board 16P Female -45℃~+85℃ Type-C SMD USB Connectors ROHS; Manufacturer: XUNPU; Mfr.Part #: TYPEC-302-BRP16SC16; Name: TYPE-C-16P; So_Chan_Dan: 16; So_Chan_Cam: 4; Package: SMD
footprint TYPE-C-16P-1
pins: A1_B12 GND (power), A4_B9 VBUS (power), A5 CC1, A6 DP1, A7 DN1, A8 SBU1, B1_A12 GND (power), B4_A9 VBUS (power), B5 CC2, B6 DP2, B7 DN2, B8 SBU2

## TYPEC-304-ACP16
designator CN?, comment TYPE-C
3A 1 Horizontal attachment 16P Female -40℃~+85℃ Type-C SMD USB Connectors ROHS; Manufacturer: XUNPU; Mfr.Part #: TYPEC-304-ACP16; So_Chan_Dan: 20; So_Chan_Cam: 0; Name: TYPEC-304-ACP16; Package: SMD
footprint TYPE-C-16P-2
pins: A1_B12 GND (power), A4_B9 VBUS (power), A5 CC1, A6 DP1, A7 DN1, A8 SBU1, B1_A12 GND (power), B4_A9 VBUS (power), B5 CC2, B6 DP2, B7 DN2, B8 SBU2

## TYPEC-304YSSW-ACP16
designator CN?, comment TYPE-C
5A USB 3.1 1 Horizontal attachment 16P Female -25℃~+85℃ Type-C SMD USB Connectors ROHS; Manufacturer: XUNPU; Mfr.Part #: TYPEC-304YSSW-ACP16; So_Chan_Dan: 20; So_Chan_Cam: 0; Name: TYPEC-304YSSW-ACP16; Package: SMD
footprint TYPE-C-16P-3
pins: A1_B12 GND (power), A4_B9 VBUS (power), A5 CC1, A6 DP1, A7 DN1, A8 SBU1, B1_A12 GND (power), B4_A9 VBUS (power), B5 CC2, B6 DP2, B7 DN2, B8 SBU2

## XH2.54 2P CONG
designator CN?, comment XH2.54 2P
1x2P 2P 1 XH Tin 2.54mm 2 -25℃~+85℃ Brass 3A Bend insert Push-Pull,P=2.54mm Wire To Board Connector ROHS; Manufacturer: Bossie; Mfr.Part #: BX-XH2.54-2PWZ; Name: XH2.54 2P CONG; So_Chan_Cam: 2; So_Chan_Dan: 0; Package: Plugin,P=2.54mm
footprint Push-Pull,P=2.54mm,2P
pins: 1, 2

## XH2.54 2P THANG
designator CN?, comment XH2.54 2P
1x2P 2P 1 XH Tin 2.54mm 2 -25℃~+85℃ Brass 3A Straight Plugin,P=2.54mm Wire To Board Connector ROHS; Manufacturer: Bossie; Mfr.Part #: BX-XH2.54-2PZZ; Name: XH2.54 2P THANG; So_Chan_Cam: 2; So_Chan_Dan: 0; Package: Plugin,P=2.54mm
footprint Plugin,P=2.54mm,2P
pins: 1, 2

## XH2.54 3P CONG
designator CN?, comment XH2.54 3P
Bend-in XH 1x3P 2.5mm 3A 3 Brass Tin 1 -25℃~+85℃ 3P Push-Pull,P=2.54mm Wire To Board Connector ROHS; Manufacturer: Bossie; Mfr.Part #: BX-XH2.54-3PWZ; Name: XH2.54 3P CONG; So_Chan_Cam: 3; So_Chan_Dan: 0; Package: Push-Pull,P=2.54mm
footprint Push-Pull,P=2.54mm,3P
pins: 1, 2, 3

## XH2.54 4P CONG
designator CN?, comment XH2.54 4P
1x4P 4P 1 XH Tin 2.54mm 4 -25℃~+85℃ Brass 3A Right-Angle Push-Pull,P=2.54mm Wire To Board Connector ROHS; Manufacturer: Bossie; Mfr.Part #: BX-XH2.54-4PWZ; Name: XH2.54 4P CONG; So_Chan_Cam: 4; So_Chan_Dan: 0; Package: Push-Pull,P=2.54mm
footprint Push-Pull,P=2.54mm,4P
pins: 1, 2, 3, 4

## XH2.54 4P THANG
designator CN?, comment XH2.54 4P
1x4P 4P 1 XH Tin 2.54mm 4 -25℃~+85℃ Brass 3A Straight Plugin,P=2.54mm Wire To Board Connector ROHS; Manufacturer: Bossie; Mfr.Part #: BX-XH2.54-4PZZ; Name: XH2.54 4P THANG; So_Chan_Cam: 4; So_Chan_Dan: 0; Package: Plugin,P=2.54mm
footprint Plugin,P=2.54mm,4P
pins: 1, 2, 3, 4

## XH2.54 5P CONG
designator CN?, comment XH2.54 5P
1x5P 5P 1 XH Tin 2.54mm 5 -25℃~+85℃ Brass 3A Right-Angle Push-Pull,P=2.54mm Wire To Board Connector ROHS; Manufacturer: Bossie; Mfr.Part #: BX-XH2.54-5PWZ; Name: XH2.54 5P CONG; So_Chan_Cam: 5; So_Chan_Dan: 0; Package: Push-Pull,P=2.54mm
footprint Push-Pull,P=2.54mm,5P
pins: 1, 2, 3, 4, 5

## XH2.54 6P THANG
designator CN?, comment XH2.54 6P
1x6P 6P 1 XH Tin 2.54mm 6 -25℃~+85℃ Brass 3A Direct Insert Plugin,P=2.54mm Wire To Board Connector ROHS; Manufacturer: Bossie; Mfr.Part #: BX-XH2.54-6PZZ; Name: XH2.54 6P THANG; So_Chan_Cam: 6; So_Chan_Dan: 0; Package: Plugin,P=2.54mm
footprint Plugin,P=2.54mm,6P
pins: 1, 2, 3, 4, 5, 6

## XH2.54 7P CONG
designator CN?, comment XH2.54 7P
1x7P 7P 1 XH Tin 2.54mm 7 -25℃~+85℃ Brass 3A Bend-in Push-Pull,P=2.54mm Wire To Board Connector ROHS; Manufacturer: Bossie; Mfr.Part #: BX-XH2.54-7PWZ; Name: XH2.54 7P CONG; So_Chan_Cam: 7; So_Chan_Dan: 0; Package: Push-Pull,P=2.54mm
footprint Push-Pull,P=2.54mm,7P
pins: 1, 2, 3, 4, 5, 6, 7

## XH2.54 7P THANG
designator CN?, comment XH2.54 7P
1x7P 7P 1 XH Tin 2.54mm 7 -25℃~+85℃ Brass 3A Straight Plugin,P=2.54mm Wire To Board Connector ROHS; Manufacturer: Bossie; Mfr.Part #: BX-XH2.54-7PZZ; Name: XH2.54 7P THANG; So_Chan_Cam: 7; So_Chan_Dan: 0; Package: Plugin,P=2.54mm
footprint Plugin,P=2.54mm,7P
footprint Plugin,P=2.54mm,7P-1
pins: 1, 2, 3, 4, 5, 6, 7

## XH2.54 9P THANG
designator CN?, comment XH2.54 9P
1x9P 9P XH Tin 9 -25℃~+85℃ 3A 1 2.5mm Brass Direct Insert Plugin,P=2.54mm Wire To Board Connector ROHS; Manufacturer: Bossie; Mfr.Part #: BX-XH2.54-9PZZ; Name: XH2.54 9P THANG; So_Chan_Cam: 9; So_Chan_Dan: 0; Package: Plugin,P=2.54mm
footprint Plugin,P=2.54mm,9P
pins: 1, 2, 3, 4, 5, 6, 7, 8, 9

## XT60PW-F
designator CN?
plug ROHS; Manufacturer: Changzhou Amass Elec; So_Chan_Cam: 4; So_Chan_Dan: 0; Mfr.Part #: XT60PW-F; Name: XT60PW-F; Package: XT60PW-F
footprint XT60PW-F
pins: 1 +, 2 -, S1 SHIELD, S2 SHIELD

## XT60PW-M
designator CN?
plug ROHS; Manufacturer: Changzhou Amass Elec; So_Chan_Cam: 4; So_Chan_Dan: 0; Mfr.Part #: XT60PW-M; Name: XT60PW-M; Package: XT60PW-M
footprint XT60PW-M
pins: 1 -, 2 +, S1 SHIELD, S2 SHIELD

## ZH1.5 2P THANG
designator CN?, comment ZH1.5 2P
1x3P 3P ZH Tin 3 -25℃~+85℃ 1A 1 1.5mm Brass Straight Plugin,P=1.5mm Wire To Board Connector ROHS; Manufacturer: JST; Mfr.Part #: B3B-ZR(LF)(SN); Name: ZH1.5 2P THANG; So_Chan_Dan: 0; So_Chan_Cam: 2; Package: Plugin,P=1.5mm
footprint Plugin,P=1.5mm,2P
pins: 1, 2

## ZH1.5 3P THANG
designator CN?, comment ZH1.5 3P
1x3P 3P ZH Tin 3 -25℃~+85℃ 1A 1 1.5mm Brass Straight Plugin,P=1.5mm Wire To Board Connector ROHS; Manufacturer: JST; Mfr.Part #: B3B-ZR(LF)(SN); Name: ZH1.5 3P THANG; So_Chan_Cam: 1; So_Chan_Dan: 0; Package: Plugin,P=1.5mm
footprint Plugin,P=1.5mm,3P
pins: 1, 2, 3

## ZH1.5 4P THANG
designator CN?, comment ZH1.5 4P
1x4P 4P ZH Tin 4 -25℃~+85℃ 1A 1 1.5mm Brass Straight Plugin,P=1.5mm Wire To Board Connector ROHS; Manufacturer: JST; Mfr.Part #: B4B-ZR-3.4(LF)(SN); Name: ZH1.5 4P THANG; So_Chan_Cam: 4; So_Chan_Dan: 0; Package: Plugin,P=1.5mm
footprint Plugin,P=1.5mm,4P
pins: 1, 2, 3, 4

## ZH1.5 4P THANG SMD
designator CN?, comment ZH1.5 4P
1x4P 4P ZH Tin 4 -25℃~+85℃ 1A 1 1.5mm Brass Brick nogging SMD,P=1.5mm Wire To Board Connector ROHS; Manufacturer: JST; Mfr.Part #: B4B-ZR-SM4-TF(LF)(SN); Name: ZH1.5 4P THANG SMD; So_Chan_Cam: 0; So_Chan_Dan: 6; Package: SMD,P=1.5mm
footprint SMD,P=1.5mm,4P
pins: 1, 2, 3, 4, S1, S2

## ZH1.5 5P THANG
designator CN?, comment ZH1.5 5P
1x5P 5P ZH Tin 5 -25℃~+85℃ 1A 1 1.5mm Brass Straight Plugin,P=1.5mm Wire To Board Connector ROHS; Manufacturer: JST; Mfr.Part #: B5B-ZR(LF)(SN); Name: ZH1.5 5P THANG; Package: Plugin,P=1.5mm
footprint Plugin,P=1.5mm,5P
pins: 1, 2, 3, 4, 5

## ZH1.5 6P THANG
designator CN?, comment ZH1.5 6P
1x6P 6P ZH Tin 6 -25℃~+85℃ 1A 1 1.5mm Brass Straight Plugin,P=1.5mm Wire To Board Connector ROHS; Manufacturer: JST; Mfr.Part #: B6B-ZR(LF)(SN); Name: ZH1.5 6P THANG; So_Chan_Cam: 6; So_Chan_Dan: 0; Package: Plugin,P=1.5mm
footprint Plugin,P=1.5mm,6P
pins: 1, 2, 3, 4, 5, 6

## ZH1.5 6P THANG SMD
designator CN?, comment ZH1.5 6P
1x6P 6P ZH Tin 6 -25℃~+85℃ 1A 1 1.5mm Brass Straight Plugin,P=1.5mm Wire To Board Connector ROHS; Manufacturer: JST; Mfr.Part #: B6B-ZR-SM4-TF(LF)(SN); Name: ZH1.5 6P THANG SMD; So_Chan_Cam: 0; So_Chan_Dan: 8; Package: SMD,P=1.5mm
footprint SMD,P=1.5mm,6P
pins: 1, 2, 3, 4, 5, 6, S1, S2

## ZH1.5 7P THANG
designator CN?, comment ZH1.5 7P
1x7P 7P ZH Tin 7 -25℃~+85℃ 1A 1 1.5mm Brass Straight Plugin,P=1.5mm Wire To Board Connector ROHS; Manufacturer: JST; Mfr.Part #: B7B-ZR(LF)(SN); Name: ZH1.5 7P THANG; Package: Plugin,P=1.5mm

## ZH1.5 8P THANG
designator CN?, comment ZH1.25 8P
1x8P 8P 1 1.25mm 8 Brass Plugin,P=1.25mm Wire To Board Connector ROHS; Manufacturer: BOOMELE(Boom Precision Elec); Mfr.Part #: 1.25T-8A; Name: ZH1.25 8P THANG; Package: Plugin,P=1.25mm
pins: 1, 2, 3, 4, 5, 6, 7, 8

## ZH1.25 2P THANG
designator CN?, comment ZH1.25 2P
1x2P 2P 1 1.25mm 2 Brass Plugin,P=1.25mm Wire To Board Connector ROHS; Manufacturer: BOOMELE(Boom Precision Elec); Mfr.Part #: 1.25T-2A; Name: ZH1.25 2P THANG; So_Chan_Cam: 2; So_Chan_Dan: 0; Package: Plugin,P=1.25mm
footprint Plugin,P=1.25mm,2P
pins: 1, 2

## ZH1.25 3P THANG
designator CN?, comment ZH1.25 3P
1x3P 3P 1 1.25mm 3 Brass Plugin,P=1.25mm Wire To Board Connector ROHS; Manufacturer: BOOMELE(Boom Precision Elec); Mfr.Part #: 1.25T-3A; Name: ZH1.25 3P THANG; Package: Plugin,P=1.25mm; So_Chan_Cam: *
footprint Plugin,P=1.25mm,3P
pins: 1, 2, 3

## ZH1.25 4P THANG
designator CN?, comment ZH1.25 4P
1x4P 4P 1 1.25mm 4 Brass Plugin,P=1.25mm Wire To Board Connector ROHS; Manufacturer: BOOMELE(Boom Precision Elec); Mfr.Part #: 1.25T-4A; Name: ZH1.25 4P THANG; Package: Plugin,P=1.25mm
footprint Plugin,P=1.25mm,4P
pins: 1, 2, 3, 4

## ZH1.25 5P THANG
designator CN?, comment ZH1.25 5P
1x5P 5P 1 1.25mm 5 Brass Plugin,P=1.25mm Wire To Board Connector ROHS; Manufacturer: BOOMELE(Boom Precision Elec); Mfr.Part #: 1.25T-5A; Name: ZH1.25 5P THANG; Package: Plugin,P=1.25mm
footprint Plugin,P=1.25mm,5P
pins: 1, 2, 3, 4, 5

## ZH1.25 6P THANG
designator CN?, comment ZH1.25 6P
1x6P 6P 1 1.25mm 6 Brass Plugin,P=1.25mm Wire To Board Connector ROHS; Manufacturer: BOOMELE(Boom Precision Elec); Mfr.Part #: 1.25T-6A; Name: ZH1.25 6P THANG; So_Chan_Cam: 6; So_Chan_Dan: 0; Package: Plugin,P=1.25mm
footprint Plugin,P=1.25mm,6P
pins: 1, 2, 3, 4, 5, 6

## ZH1.25 7P THANG
designator CN?, comment ZH1.25 7P
1x7P 7P 1 1.25mm 7 Brass Plugin,P=1.25mm Wire To Board Connector ROHS; Manufacturer: BOOMELE(Boom Precision Elec); Mfr.Part #: 1.25T-7A; Name: ZH1.25 7P THANG; Package: Plugin,P=1.25mm
pins: 1, 2, 3, 4, 5, 6, 7

## ZH1.25 8P THANG
designator CN?, comment ZH1.25 8P
1x8P 8P 1 1.25mm 8 Brass Plugin,P=1.25mm Wire To Board Connector ROHS; Manufacturer: BOOMELE(Boom Precision Elec); Mfr.Part #: 1.25T-8A; Name: ZH1.25 8P THANG; Package: Plugin,P=1.25mm
pins: 1, 2, 3, 4, 5, 6, 7, 8

## ZH1.25 9P THANG
designator CN?, comment ZH1.25 9P
1x9P 9P 1 1.25mm 9 Brass Plugin,P=1.25mm Wire To Board Connector ROHS; Manufacturer: BOOMELE(Boom Precision Elec); Mfr.Part #: 1.25T-9A; Name: ZH1.25 9P THANG; Package: Plugin,P=1.25mm
pins: 1, 2, 3, 4, 5, 6, 7, 8, 9

## ZH1.25 10P THANG
designator CN?, comment ZH1.25 10P
1x10P 10P 1 1.25mm 10 Brass Plugin,P=1.25mm Wire To Board Connector ROHS; Manufacturer: BOOMELE(Boom Precision Elec); Mfr.Part #: 1.25T-10A; Name: ZH1.25 10P THANG; Package: Plugin,P=1.25mm; So_Chan_Cam: *
footprint Plugin,P=1.25mm,2P

## ZH1.25 11P THANG
designator CN?, comment ZH1.25 11P
1x11P 11P 1 1.25mm 11 Phosphor bronze Plugin,P=1.25mm Wire To Board Connector ROHS; Manufacturer: BOOMELE(Boom Precision Elec); Mfr.Part #: 1.25T-11A; Name: ZH1.25 11P THANG; Package: Plugin,P=1.25mm; So_Chan_Cam: *
footprint Plugin,P=1.25mm,2P